# EAGLE library part SY8083P (library microcodes)
3-5.5V synchronous step-down
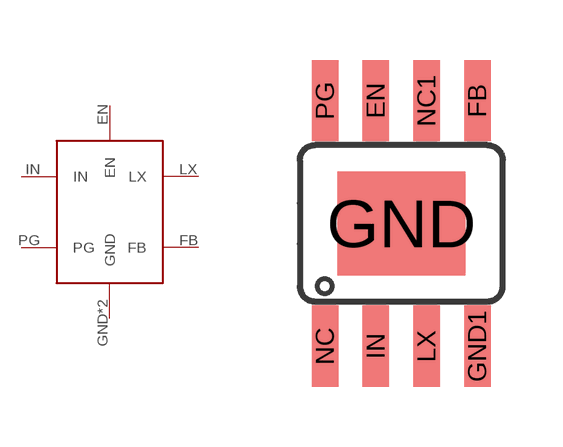
[diagram p1: symbol with the pads of SO8_EP; footprint SO8_EP]

Designator prefix -

## SY8083P (SOIC8: soic8_ep)  [SO8_EP]
EN  EN  in
FB  FB
GND  GND  out
GND1  GND  out
IN  IN  pwr
LX  LX  out
PG  PG  in

## Footprint SO8_EP (pad centres in mm)
SOIC 150 mil. based on soic8 footprint from the maxim library. I've added the dissipation pad as per datasheet, changed tPlace elements, named the pins and fixed a weird misalignment on the third pin of the bottom row which I suppose it was the designer's signature.
smd 0.66 x 2.032: EN -0.635,3.073; FB 1.905,3.073; GND1 1.905,-3.073; IN -0.635,-3.073; LX 0.635,-3.073; NC -1.905,-3.073; NC1 0.635,3.073; PG -1.905,3.073
smd 3.2 x 2.6: GND 0,0